# Altium schematic symbol library Vout.SchLib: 1 symbol
Pins are listed as number, name and electrical type; pins without a type are passive.

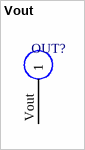
[diagram p0: symbol Vout]

## Vout
designator OUT?  (value not drawn)
footprint VoutPad
pins: Vout 1